# Altium schematic symbol library Components - 28.08.24 - 16.31.SchLib: 1 symbol
Pins are listed as number, name and electrical type; pins without a type are passive.

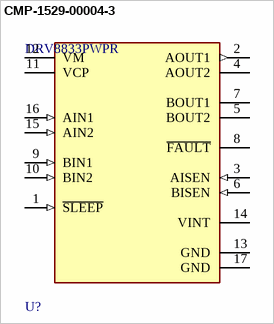
[diagram p0: symbol CMP-1529-00004-3]

## CMP-1529-00004-3
designator U?, comment DRV8833PWPR
IC MOTOR DRIVER PAR 16HTSSOP; Supply Current: 3mA; Max Output Current: 2A; Interface: PWM; Output Current: 1.5A; Max Supply Voltage: 10.8V; Fault Protection: Over Temperature; Number of Outputs: 2; Min Supply Voltage: 2.7V; Nominal Supply Current: 3mA; Series: DRV8833; Min Operating Temperature: -40°C; Package Quantity: 2000; Packaging: Tape and Reel; Case/Package: HTSSOP; Output Current per Channel: 1.5A; RoHS Compliant: Yes; RMS Current (Irms): 1.5A; Max Operating Temperature: 85°C; Technology: NMOS; Number of Pins: 16; Radiation Hardening: No; Lead Free: Lead Free; REACH SVHC: No SVHC
footprint FP-PWP0016C-IPC_A
footprint FP-PWP0016C-IPC_B
footprint FP-PWP0016C-IPC_C
footprint FP-PWP0016C-MFG
pins: 1 ~{SLEEP} (in), 2 AOUT1 (out), 3 AISEN (in), 4 AOUT2 (hiz), 5 BOUT2 (hiz), 6 BISEN (in), 7 BOUT1 (hiz), 8 ~{FAULT} (oc), 9 BIN1 (in), 10 BIN2 (in), 11 VCP, 12 VM (power), 13 GND (power), 14 VINT (power), 15 AIN2 (in), 16 AIN1 (in), 17 GND (power)